# Altium footprint library SparkFun-DiscreteSemi.PCBLIB: 44 footprints (part 3 of 3)
Each footprint in its own frame and in the unit in brackets; x right, y up, seen from the top. Pads: shape width x height; smd on the part's side, far side on the other; paste and mask are expansions set on the pad; w line width, h text height; cw(c..) or ccw(c..) is an arc to the next point about the centre after c.
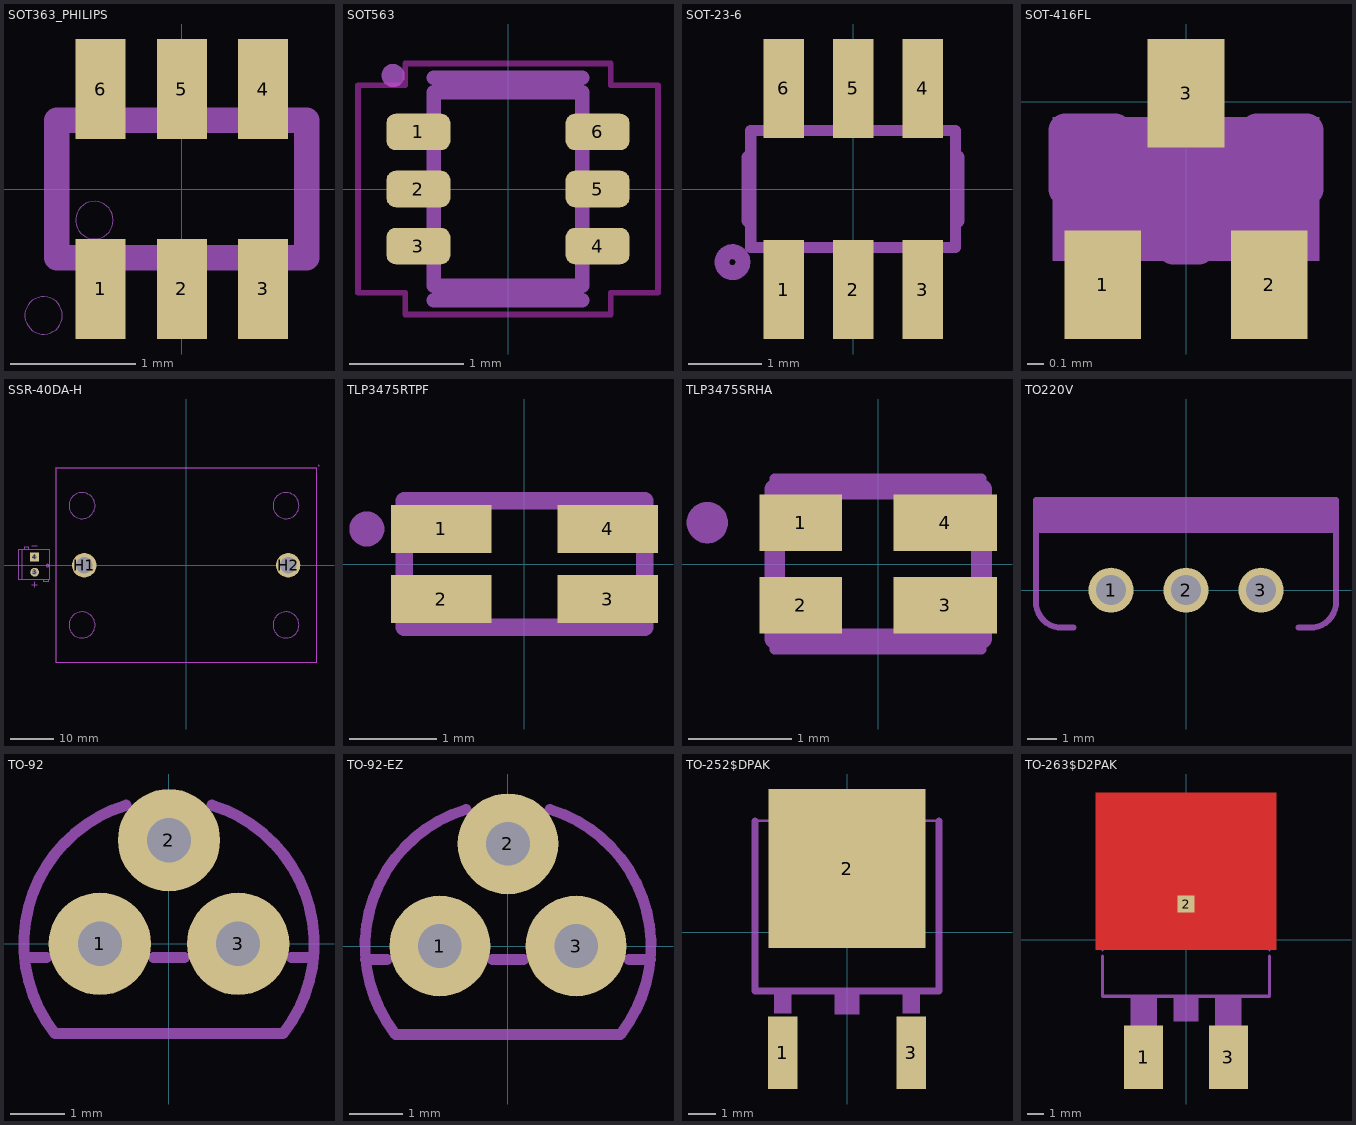
[diagram p2: the footprints below, top view; thin cyan lines are the x and y axes]

## SOT363_PHILIPS [mil]
pads (6):
  rect 15.75x31.5 smd: 1(-25.59,-31.5) 2(0,-31.5) 3(25.59,-31.5) 4(25.59,31.5) 5(0,31.5) 6(-25.59,31.5)
tDocu:
  region: -31.5,-43.31 -31.5,-23.62 -19.69,-23.62 -19.69,-43.31
  region: -5.91,-43.31 -5.91,-23.62 5.91,-23.62 5.91,-43.31
  region: 19.69,-43.31 19.69,-23.62 31.5,-23.62 31.5,-43.31
  region: 19.69,23.62 19.69,43.31 31.5,43.31 31.5,23.62
  region: -5.91,23.62 -5.91,43.31 5.91,43.31 5.91,23.62
  region: -31.5,23.62 -31.5,43.31 -19.69,43.31 -19.69,23.62
  lines w8: -39.37,-21.65 39.37,-21.65 ; -39.37,21.65 39.37,21.65
tPlace:
  circle w0: c-27.56,-9.84 r5.91
  circle w0: c-43.56,-39.84 r5.91
  lines w8: -39.37,-21.65 -39.37,21.65 ; 39.37,-21.65 39.37,21.65

## SOT563 [mm]
pads (6):
  rrect50% 0.56x0.32 smd: 1(-0.785,0.5) 2(-0.785,0) 3(-0.785,-0.5) 4(0.785,-0.5) 5(0.785,0) 6(0.785,0.5)
Top keep-out:
  lines w0.05: -1.315,-0.91 -1.315,0.91 -0.9,0.91 -0.9,1.1 0.9,1.1 0.9,0.91 1.315,0.91 1.315,-0.91 0.9,-0.91 0.9,-1.1 -0.9,-1.1 -0.9,-0.91 -1.315,-0.91
tDocu:
  lines w0.127: -0.65,-0.85 0.65,-0.85 0.65,0.85 -0.65,0.85 -0.65,-0.85
tPlace:
  circle w0.1: c-1.008,0.996 r0.05
  lines w0.127: -0.65,-0.974 0.65,-0.974 ; -0.65,0.974 0.65,0.974
bPlace:
  circle w0.1: c-1.006,0.993 r0.05

## SOT-23-6 [mm]
pads (6):
  rect 0.55x1.35 smd: 1(-0.95,-1.375) 2(0,-1.375) 3(0.95,-1.375) 4(0.95,1.375) 5(0,1.375) 6(-0.95,1.375)
tDocu:
  region: -1.2,-1.5 -1.2,-0.85 -0.7,-0.85 -0.7,-1.5
  region: -0.25,-1.5 -0.25,-0.85 0.25,-0.85 0.25,-1.5
  region: 0.7,-1.5 0.7,-0.85 1.2,-0.85 1.2,-1.5
  region: 0.7,0.85 0.7,1.5 1.2,1.5 1.2,0.85
  region: -1.2,0.85 -1.2,1.5 -0.7,1.5 -0.7,0.85
  region: -0.25,0.85 -0.25,1.5 0.25,1.5 0.25,0.85
  lines w0.152: -1.4,-0.8 1.4,-0.8 1.4,0.8 -1.4,0.8 -1.4,-0.8
tPlace:
  circle w0.203: c-1.65,-1 r0.144
  lines w0.203: -1.422,-0.43 -1.422,0.43 ; 1.422,-0.43 1.422,0.43

## SOT-416FL [mm]
pads (3):
  rect 0.46x0.65 smd: 1(-0.5,-1.1) 2(0.5,-1.1) 3(0,0.05)
tDocu:
  region: -0.8,-0.955 -0.8,-0.095 0.8,-0.095 0.8,-0.955
tPlace:
  lines w0.203: -0.725,-0.525 -0.725,-0.175 -0.425,-0.175 ; -0.075,-0.875 0.075,-0.875 ; 0.425,-0.175 0.725,-0.175 0.725,-0.525

## SSR-40DA-H [mil]
pads (4):
  round 80 hole 47.24: 3(-1375,-62.8)
  rect 80x80 / inner round 73.91 / far side rect 80x80 hole 47.24: 4(-1375,75)
  round 220.47 hole 146.85: H1(-925.2,0) H2(924.8,0)
Top keep-out:
  lines w5: -1181.1,-885.83 1181.1,-885.83 1181.1,885.83 -1181.1,885.83 -1181.1,-885.83
tDocu:
  circle w5: c-1256.89,-3.74 r11.13
  lines w8: -1467.52,143.9 -1467.52,163.58 -1428.15,163.58 -1428.15,143.9 ; -1290.35,-131.69 -1290.35,-151.38 -1250.98,-151.38 -1250.98,-131.69
tPlace:
  circle w8: c905.51,-541.34 r118.11
  circle w8: c1200.47,904.88 r4
  circle w8: c905.51,541.34 r118.11
  circle w8: c-944.88,541.34 r118.11
  circle w8: c-944.88,-541.34 r118.11
  lines w5: -1181.1,-885.83 1181.1,-885.83 1181.1,885.83 -1181.1,885.83 -1181.1,-885.83
  lines w8: -1400,-175 -1350,-175 ; -1400,175 -1350,175 ; -1375,-200 -1375,-150 ; -1485.24,-131.69 -1241.14,-131.69 -1241.14,143.9 -1485.24,143.9 ; -1485.24,-131.69 -1516.73,-131.69 -1516.73,143.9 -1485.24,143.9 ; -1485.24,-131.69 -1485.24,143.9

## TLP3475RTPF [mm]
pads (4):
  rect 1.15x0.55 smd: 1(-0.95,0.4) 2(-0.95,-0.4) 3(0.95,-0.4) 4(0.95,0.4)
tDocu:
  lines w0.2: -1.375,-0.725 1.375,-0.725 1.375,0.725 -1.375,0.725 -1.375,-0.725
tPlace:
  lines w0.1: -0.2,-0.725 0.2,-0.725 ; -0.2,0.725 0.2,0.725
  lines w0.2: -1.8,0.3 ccw(c-1.8,0.4) -1.8,0.5 ccw(c-1.8,0.4) -1.8,0.3

## TLP3475SRHA [mm]
pads (4):
  rect 0.8x0.55 smd: 1(-0.75,0.4) 2(-0.75,-0.4)
  rect 1x0.55 smd: 3(0.65,-0.4) 4(0.65,0.4)
tDocu:
  lines w0.2: -1,-0.725 1,-0.725 1,0.725 -1,0.725 -1,-0.725
tPlace:
  lines w0.1: -1,-0.825 1,-0.825 ; -1,0.825 1,0.825
  lines w0.2: -1.654,0.3 ccw(c-1.654,0.4) -1.654,0.5 ccw(c-1.654,0.4) -1.654,0.3

## TO220V [mil]
pads (3):
  round 60 hole 40: 1(-100,0) 2(0,0) 3(100,0)
tPlace:
  region: -200,80 -200,120 200,120 200,80
  lines w8: -150,-50 -165,-50 cw(c-165.83,-15.83) -200,-15 -200,80 ; 150,-50 165,-50 ccw(c165.83,-15.83) 200,-15 200,80 ; -200,80 200,80 ; -200,80 -200,120 200,120 200,80

## TO-92 [mil]
pads (3):
  round 74 hole 32: 1(-50,0) 2(0,75) 3(50,0)
tPlace:
  lines w8: -104.52,-10 -88.73,-10 ; -30.96,100.33 ccw(c0,0) -82.46,-65 82.46,-65 ccw(c0,0) 30.96,100.33 ; -11.27,-10 11.27,-10 ; 88.73,-10 104.52,-10

## TO-92-EZ [mil]
pads (3):
  round 74 hole 32: 1(-50,0) 2(0,75) 3(50,0)
Top Solder:
  circle w0: c0,75 r20
  circle w0: c-50,0 r20
  circle w0: c50,0 r20
Bottom Solder:
  circle w0: c0,75 r40.31
  circle w0: c50,0 r40.31
  circle w0: c-50,0 r40.31
tPlace:
  lines w8: -104.52,-10 -88.73,-10 ; -30.96,100.33 ccw(c0,0) -82.46,-65 82.46,-65 ccw(c0,0) 30.96,100.33 ; -11.27,-10 11.27,-10 ; 88.73,-10 104.52,-10

## TO-252$DPAK [mm]
pads (3):
  rect 1.06x2.6 smd: 1(-2.3,-4.31) 3(2.3,-4.31)
  rect 5.632x5.7 smd paste+0: 2(0,2.288)
Top Paste:
  region: 0.2,-0.5 0.2,2.1 2.7,2.1 2.7,-0.5
  region: 0.2,2.4 0.2,5 2.7,5 2.7,2.4
  region: -0.2,5 -0.2,2.4 -2.7,2.4 -2.7,5
  region: -0.2,2.1 -0.2,-0.5 -2.7,-0.5 -2.7,2.1
tDocu:
  region: 1.909,-5 1.909,-3.4 2.691,-3.4 2.691,-5
  region: -0.43,-2.93 -0.43,-2.1 0.43,-2.1 0.43,-2.93
  region: -2.691,-5 -2.691,-3.4 -1.909,-3.4 -1.909,-5
  lines w0.1: -2.65,4 -2.65,5 2.65,5 2.65,4 ; -2.65,4 -3.3,4 -3.3,-2.1 3.3,-2.1 3.3,4 2.65,4 ; -2.65,4 2.65,4
tPlace:
  region: -0.4,-2.9 -0.4,-2.2 0.4,-2.2 0.4,-2.9
  region: -2.6,-2.9 -2.6,-2.2 -2,-2.2 -2,-2.9
  region: 2,-2.9 2,-2.1 2.6,-2.1 2.6,-2.9
  lines w0.25: -3.3,4 -3.3,-2.1 3.3,-2.1 3.3,4

## TO-263$D2PAK [mm]
pads (3):
  rect 2.32x3.81 smd: 1(-2.54,-7.045) 3(2.54,-7.045)
  rect 1x1 smd paste+0 mask+0: 2(0,2.125)
Top:
  region: -5.4,8.8 5.4,8.8 5.4,-0.6 -5.4,-0.6
Top Paste:
  region: -2.5,0 -2.5,2 -0.5,2 -0.5,0
  region: -5,0 -5,2 -3,2 -3,0
  region: -5,2.5 -5,4.5 -3,4.5 -3,2.5
  region: -2.5,2.5 -2.5,4.5 -0.5,4.5 -0.5,2.5
  region: -5,5 -5,8 -3,8 -3,5
  region: 3,0 3,2 5,2 5,0
  region: 0.5,0 0.5,2 2.5,2 2.5,0
  region: 0.5,2.5 0.5,4.5 2.5,4.5 2.5,2.5
  region: 3,2.5 3,4.5 5,4.5 5,2.5
  region: -2.5,5 -2.5,8 -0.5,8 -0.5,5
  region: 0.5,5 0.5,8 2.5,8 2.5,5
  region: 3,5 3,8 5,8 5,5
Top Solder:
  region: -5.588,-0.762 -5.588,9.017 5.588,9.017 5.588,-0.762
tDocu:
  region: -3.27,-7.6 -3.27,-3.4 -1.81,-3.4 -1.81,-7.6
  region: 1.81,-7.6 1.81,-3.4 3.27,-3.4 3.27,-7.6
  region: -5,6.25 -5,7 -1,7.65 1,7.65 5,7 5,6.25
  lines w0.127: -5,-0.65 -5,6.25 ; 5,-0.65 5,6.25 ; -3.27,-7.6 -1.81,-7.6 -1.81,-3.4 -3.27,-3.4 -3.27,-7.6 ; 1.81,-7.6 1.81,-3.4 3.27,-3.4 3.27,-7.6 1.81,-7.6
tPlace:
  region: -0.73,-4.9 -0.73,-3.4 0.73,-3.4 0.73,-4.9
  region: -3.27,-4.9 -3.27,-3.4 -1.81,-3.4 -1.81,-4.9
  region: 1.81,-4.9 1.81,-3.4 3.27,-3.4 3.27,-4.9
  lines w0.203: -5,-1 -5,-3.4 5,-3.4 5,-1